# Altium footprint library RES-TEST.PcbLib: 1 footprints
Each footprint in its own frame and in the unit in brackets; x right, y up, seen from the top. Pads: shape width x height; smd on the part's side, far side on the other; paste and mask are expansions set on the pad; w line width, h text height; cw(c..) or ccw(c..) is an arc to the next point about the centre after c.
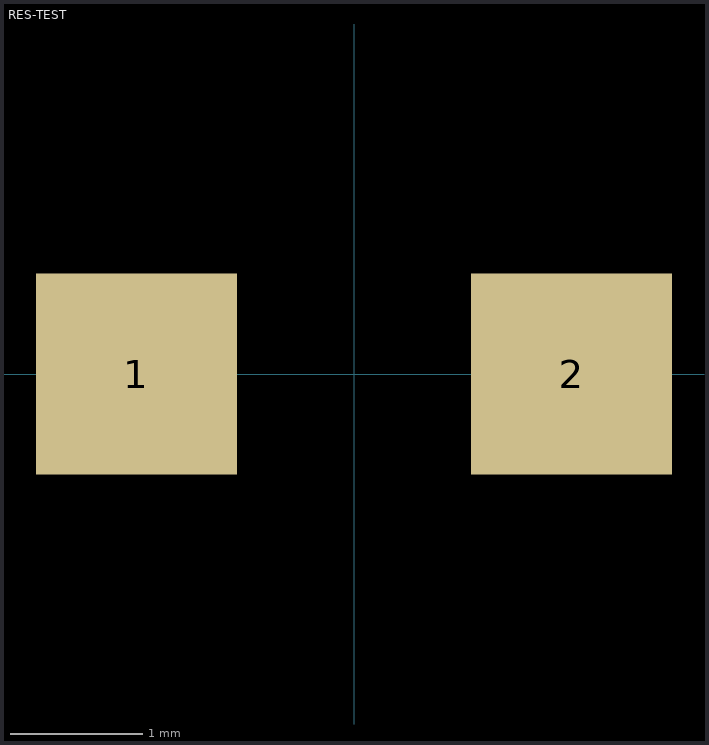
[diagram p0: the footprint, top view; thin cyan lines are the x and y axes]

## RES-TEST [mil]
pads (2):
  rect 60x60 smd: 1(-65,0) 2(65,0)
3D body "RES1206.stp": height 23.62, standoff 0, extent -62.99,-31.49 63,31.5